# Altium schematic symbol library Term,Header,6 Pin,Top,2.54mm.Schlib: 1 symbol
Pins are listed as number, name and electrical type; pins without a type are passive.

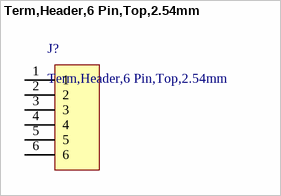
[diagram p0: symbol Term,Header,6 Pin,Top,2.54mm]

## Term,Header,6 Pin,Top,2.54mm
designator J?
Connector Header Through Hole 6 position 0.100" (2.54mm)
pins: 1, 2, 3, 4, 5, 6